# Altium schematic symbol library ArduinoHeaders.SchLib: 4 symbols
Pins are listed as number, name and electrical type; pins without a type are passive.

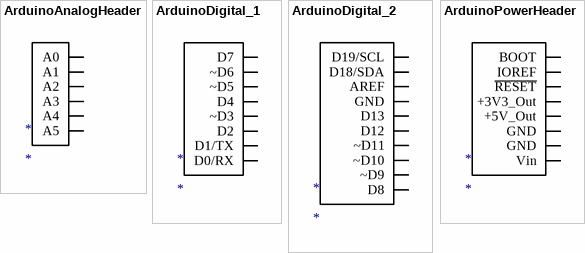
[diagram p0: symbols ArduinoAnalogHeader to ArduinoPowerHeader]

## ArduinoAnalogHeader
designator *
pins: 1 A0, 2 A1, 3 A2, 4 A3, 5 A4, 6 A5

## ArduinoDigital_1
designator *
pins: 1 D0/RX, 2 D1/TX, 3 D2, 4 ~D3, 5 D4, 6 ~D5, 7 ~D6, 8 D7

## ArduinoDigital_2
designator *
pins: 1 D8, 2 ~D9, 3 ~D10, 4 ~D11, 5 D12, 6 D13, 7 GND, 8 AREF, 9 D18/SDA, 10 D19/SCL

## ArduinoPowerHeader
designator *
pins: 1 BOOT, 2 IOREF, 3 ~{RESET}, 4 +3V3_Out, 5 +5V_Out, 6 GND, 7 GND, 8 Vin